# EAGLE library part CN3302 (library 1_MICRO)
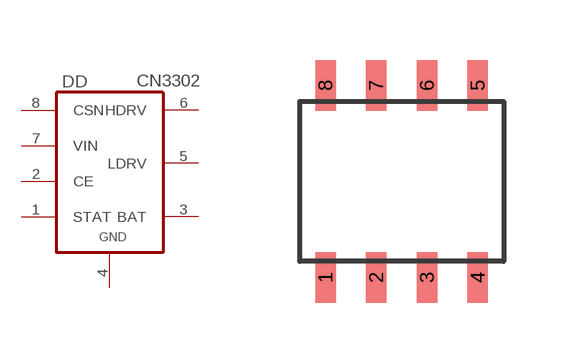
[diagram p1: symbol with the pads of SOP-8; footprint SOP-8]

Designator prefix DD

## CN3302  [SOP-8]
1  STAT  out
2  CE  in
3  BAT  pwr
4  GND  pwr
5  LDRV  out
6  HDRV  out
7  VIN  in
8  CSN  in

## Footprint SOP-8 (pad centres in mm)
smd 0.51 x 1.27: 1 -1.905,-2.4; 2 -0.635,-2.4; 3 0.635,-2.4; 4 1.905,-2.4; 5 1.905,2.4; 6 0.635,2.4; 7 -0.635,2.4; 8 -1.905,2.4